# EAGLE library part ATTINY85-20PU (library Common-Parts-Library-Eagle)
ATtiny Series 20 MHz 8 KB Flash 512 B SRAM 8-Bit Microcontroller - DIP-8
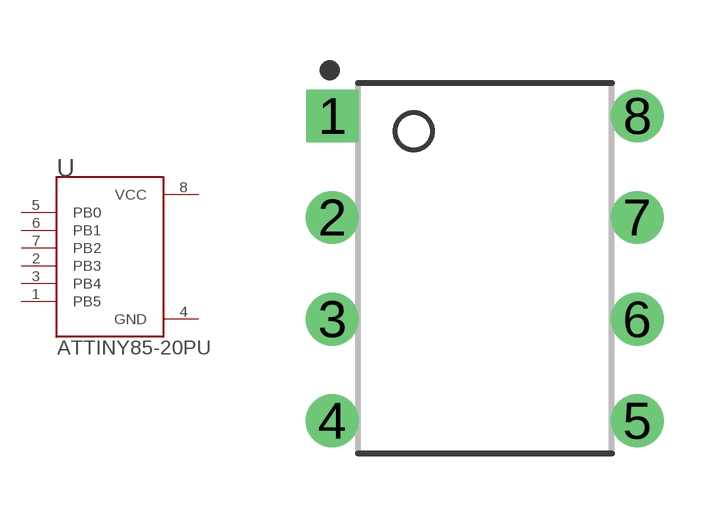
[diagram p27: symbol with the pads of DIP762W46P254L927H533Q8B; footprint DIP762W46P254L927H533Q8B]

Designator prefix U

## ATTINY85-20PU (MANUFACTURER: Atmel)  [DIP762W46P254L927H533Q8B]
1  PB5
2  PB3
3  PB4
4  GND  pwr
5  PB0
6  PB1
7  PB2
8  VCC  pwr

## Footprint DIP762W46P254L927H533Q8B (pad centres in mm)
drill 0.813 square: 1 -3.81,3.81
drill 0.813: 2 -3.81,1.27; 3 -3.81,-1.27; 4 -3.81,-3.81; 5 3.81,-3.81; 6 3.81,-1.27; 7 3.81,1.27; 8 3.81,3.81